# EAGLE library part TPS62150 (library squirrel)
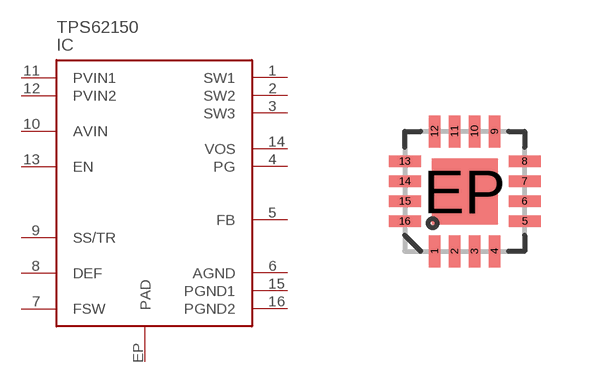
[diagram p14: symbol with the pads of QFN-16; footprint QFN-16]

Designator prefix IC

## TPS62150  [QFN-16]
1  SW1
2  SW2
3  SW3
4  PG
5  FB
6  AGND
7  FSW
8  DEF
9  SS/TR
10  AVIN
11  PVIN1
12  PVIN2
13  EN
14  VOS
15  PGND1
16  PGND2
EP  PAD

## Footprint QFN-16 (pad centres in mm)
smd 0.285 x 0.8: 1 -1.75,-2.5; 2 -1.25,-2.5; 3 -0.75,-2.5; 4 -0.25,-2.5; 9 -0.25,0.5; 10 -0.75,0.5; 11 -1.25,0.5; 12 -1.75,0.5
smd 0.8 x 0.285: 5 0.5,-1.75; 6 0.5,-1.25; 7 0.5,-0.75; 8 0.5,-0.25; 13 -2.5,-0.25; 14 -2.5,-0.75; 15 -2.5,-1.25; 16 -2.5,-1.75
smd 1.65 x 1.65: EP -1,-1